# EAGLE library part REF50XX (library BMC components)
REF50xx Low-Noise, Very Low Drift, Precision VOLTAGE REFERENCES The REF50xx is a family of low-noise, low-drift, very high precision voltage references. These references are capable of both sinking and sourcing, and are very robust with regard to line and load changes. Datasheet: http://www.ti.com/lit/ds/symlink/ref5030.pdf Information: http://www.ti.com/product/ref5030 MODEL OUTPUT VOLTAGE REF5020 2.048 V REF5025 2.5 V REF5030 3.0 V REF5040 4.096 V REF5045 4.5 V REF5050 5.0 V REF5010 10 V
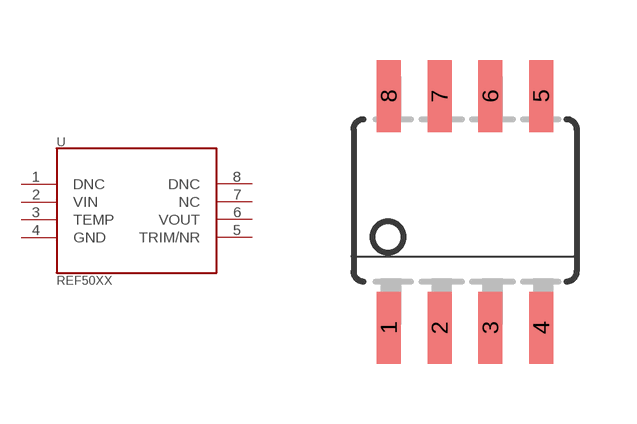
[diagram p10: symbol with the pads of SOIC8; footprint SOIC8]

Designator prefix -

## REF50XX"  [SOIC8]
1  DNC  nc
2  VIN
3  TEMP
4  GND
5  TRIM/NR
6  VOUT
7  NC
8  DNC  nc

## Footprint SOIC8 (pad centres in mm)
SOIC-8/SO-8 This package is a bit wonky because it seems like different manufacturers make their devices in different widths? So the pads here are sized to be long enough to fit the SOIC-8 footprint here <http://glacier.lbl.gov/gtp/DOM/dataSheets/soic8_dim.pdf>, as well as the TI SO-8 footprint. edit 2013-12-27: not anymore, I shortened the pads -abk Be sure to check the width of your component before using this package!!!!
smd 0.6 x 1.8: 1 0.5,-2.9; 2 1.77,-2.9; 3 3.04,-2.9; 4 4.31,-2.9; 5 4.31,2.9; 6 3.04,2.9; 7 1.77,2.9; 8 0.5,2.9